# Altium footprint library Components.PcbLib: 86 footprints (part 1 of 6)
Each footprint in its own frame and in the unit in brackets; x right, y up, seen from the top. Pads: shape width x height; smd on the part's side, far side on the other; paste and mask are expansions set on the pad; w line width, h text height; cw(c..) or ccw(c..) is an arc to the next point about the centre after c.
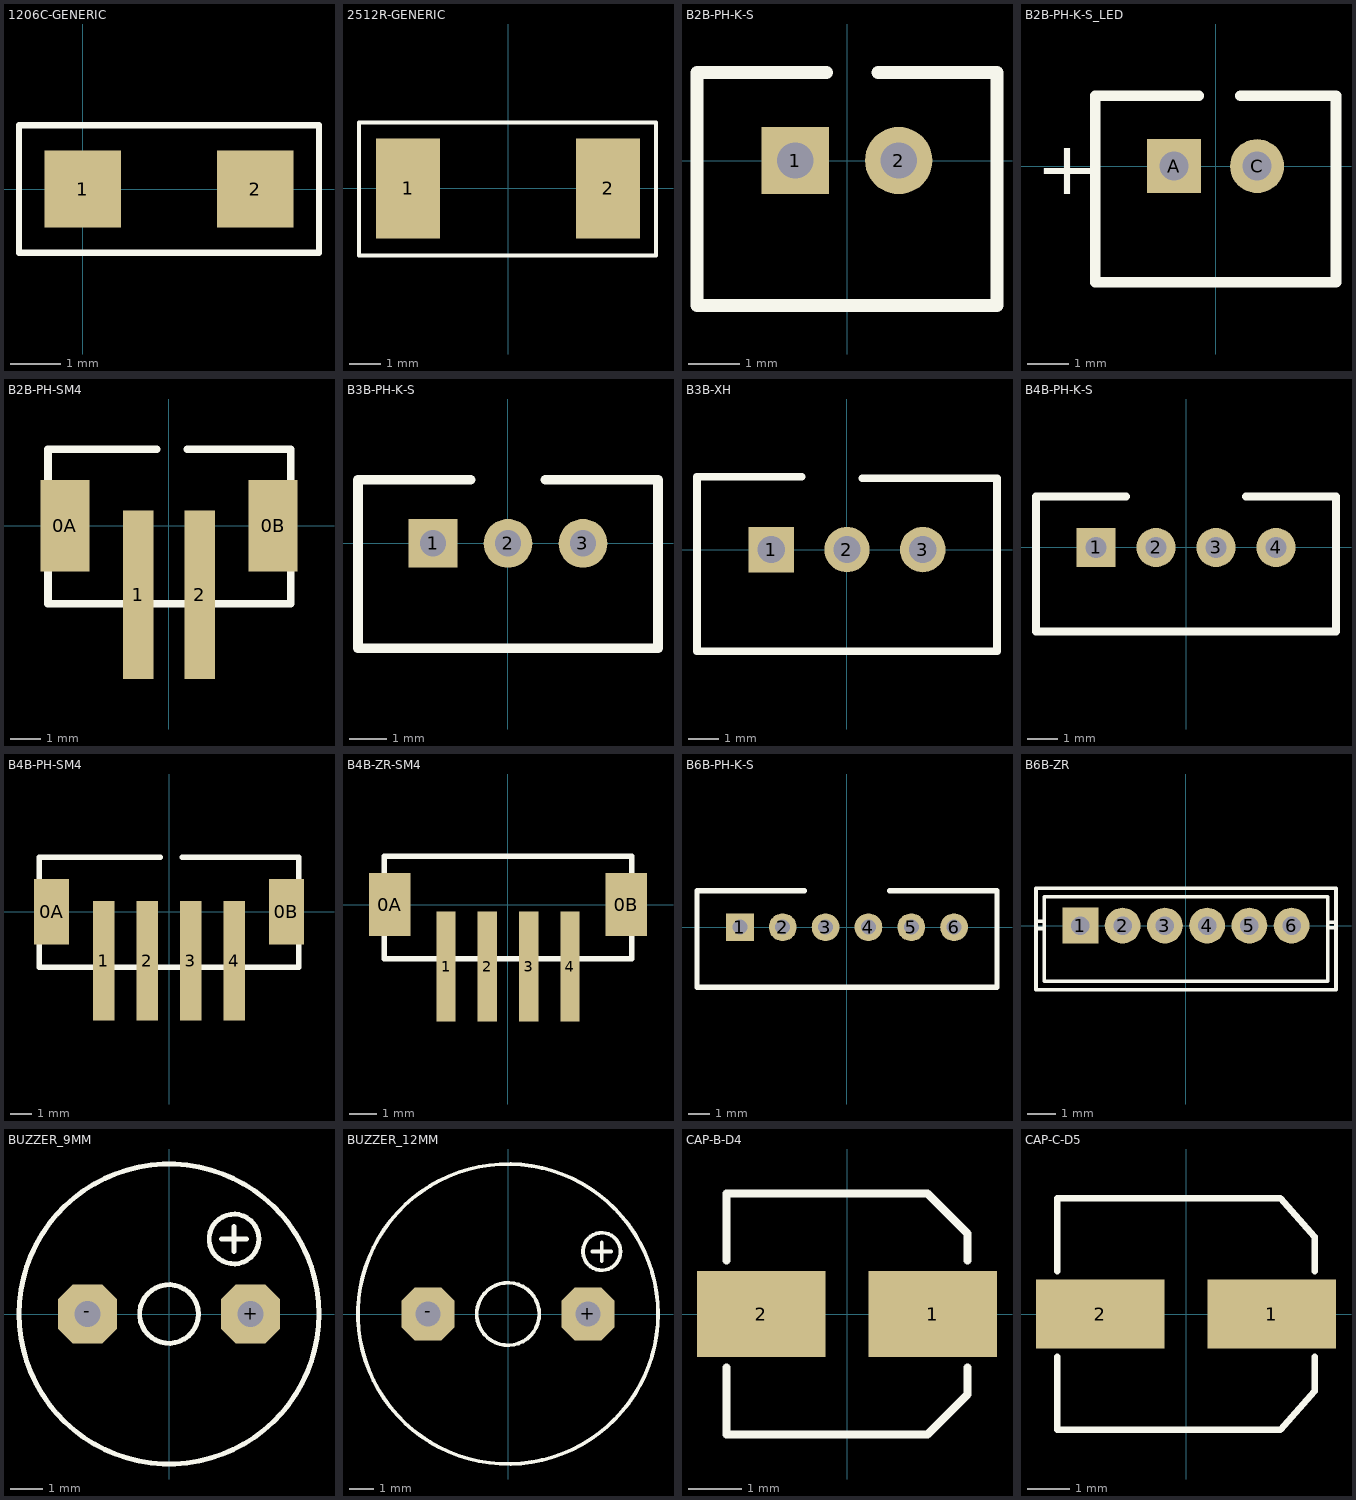
[diagram p0: the footprints below, top view; thin cyan lines are the x and y axes]

## 1206C-GENERIC [mil]
pads (2):
  rect 60x60 smd: 1(0,0) 2(135,0)
Top Overlay:
  lines w5: -50,-50 -50,50 185,50 185,-50 -50,-50
3D body: height 46, standoff 0, extent -8,-29 22,29
3D body: height 45, standoff 0, extent 20,-28 118,28
3D body: height 23, standoff 22, extent 84.5,-16 92,-1
3D body: height 23, standoff 22, extent 74.5,-16 82,-1
3D body: height 23, standoff 22, extent 44.5,-16 52,-1
3D body: height 23, standoff 22, extent 64.5,-16 72,-1
3D body: height 23, standoff 22, extent 69,1.5 76.5,16.5
3D body: height 23, standoff 22, extent 59,1.5 66.5,16.5
3D body: height 23, standoff 22, extent 49,1.5 56.5,16.5
3D body: height 23, standoff 22, extent 39,1.5 46.5,16.5
3D body: height 23, standoff 22, extent 54.5,-16 62,-1
3D body: height 23, standoff 22, extent 79,1.5 86.5,16.5
3D body: height 23, standoff 22, extent 89,1.5 96.5,16.5
3D body: height 46, standoff 0, extent 117,-29 147,29

## 2512R-GENERIC [mil]
pads (2):
  rect 80x125 smd: 1(-125,0) 2(125,0)
Top Overlay:
  lines w5: -186.32,-84 -186.32,0 -186.32,82.68 185.04,82.68 185.04,-84 -186.32,-84
3D body: height 19, standoff 0, extent -139,-60.5 -115,61
3D body: height 19, standoff 0, extent 112.5,-60.5 136,61
3D body: height 19, standoff 18, extent -115,-55.5 112.5,56.5
3D body: height 18, standoff 0, extent -137,-60.5 134.5,61

## B2B-PH-K-S [mm] "JST Header 2 pins Straight, top entry"
pads (2):
  rect 1.3x1.3 hole 0.7: 1(-1,0)
  round 1.3 hole 0.7: 2(1,0)
Top Overlay:
  lines w0.254: -0.4,1.7 -2.9,1.7 -2.9,-2.8 2.9,-2.8 2.9,1.7 0.6,1.7
3D body: height 6, standoff -3.4, extent -2.95,-2.8 2.95,1.7

## B2B-PH-K-S_LED [mm] "JST Header 2 pins Straight, top entry"
pads (2):
  rect 1.3x1.3 hole 0.7: A(-1,0)
  round 1.3 hole 0.7: C(1,0)
Top Overlay:
  lines w0.254: -0.4,1.7 -2.9,1.7 -2.9,-2.8 2.9,-2.8 2.9,1.7 0.6,1.7
  text "+" at -4.325,-0.675 h1.3
3D body: height 6, standoff -3.4, extent -2.95,-2.8 2.95,1.7

## B2B-PH-SM4 [mm] "JST Header 2 pins Straight, top entry"
pads (4):
  rect 1.6x3 smd: 0A(-3.4,0) 0B(3.4,0)
  rect 1x5.5 smd: 1(-1,-2.25) 2(1,-2.25)
Top Overlay:
  lines w0.254: -0.4,2.5 -3.95,2.5 -3.95,-2.55 3.975,-2.55 3.975,2.5 0.6,2.5
3D body: height 6.6, standoff 0, extent -3.975,-4.5 3.975,2.5

## B3B-PH-K-S [mm] "JST Header 3 pins Straight, top entry"
height 6
pads (3):
  rect 1.3x1.3 hole 0.7: 1(-2,0)
  round 1.3 hole 0.7: 2(0,0) 3(2,0)
Top Overlay:
  lines w0.254: -1,1.7 -4,1.7 -4,-2.8 4,-2.8 4,1.7 1,1.7
3D body: height 6, standoff -3.4, extent -3.95,-2.8 3.95,1.7

## B3B-XH [mm] "JST Header 3 pins Straight, top entry"
height 6
pads (3):
  rect 1.5x1.5 hole 0.9: 1(-2.5,0)
  round 1.5 hole 0.9: 2(0,0) 3(2.5,0)
Top Overlay:
  lines w0.254: -1.5,2.4 -4.95,2.4 -4.95,-3.35 4.95,-3.35 4.95,2.35 0.5,2.35
3D body: height 7, standoff -3.4, extent -4.95,-3.4 4.95,2.35

## B4B-PH-K-S [mm] "JST Header 4 pins Straight, top entry"
height 6
pads (4):
  rect 1.3x1.3 hole 0.7: 1(-3,0)
  round 1.3 hole 0.7: 2(-1,0) 3(1,0) 4(3,0)
Top Overlay:
  lines w0.254: -2,1.7 -5,1.7 -5,-2.8 5,-2.8 5,1.7 2,1.7
3D body: height 6, standoff -3.4, extent -4.95,-2.8 4.95,1.7

## B4B-PH-SM4 [mm] "JST Header 4 pins Straight, top entry"
pads (6):
  rect 1.6x3 smd: 0A(-5.4,0) 0B(5.4,0)
  rect 1x5.5 smd: 1(-3,-2.25) 2(-1,-2.25) 3(1,-2.25) 4(3,-2.25)
Top Overlay:
  lines w0.254: -0.4,2.5 -5.975,2.5 -5.975,-2.55 5.975,-2.55 5.975,2.5 0.6,2.5
3D body: height 6.6, standoff 0, extent -5.975,-4.5 5.975,2.5

## B4B-ZR-SM4 [mm] "ZH Connector 1.5mm pitch, top entry"
pads (6):
  rect 1.5x2.3 smd: 0A(-4.3,0) 0B(4.3,0)
  rect 0.7x4 smd: 1(-2.25,-2.25) 2(-0.75,-2.25) 3(0.75,-2.25) 4(2.25,-2.25)
Top Overlay:
  lines w0.2: -4.5,-1.975 4.5,-1.975 4.5,1.75 -4.5,1.75 -4.5,-1.975
3D body: height 5, standoff 0, extent -4.5,-3.45 4.5,1.75

## B6B-PH-K-S [mm] "PH Connector 2mm pitch, top entry"
height 6
pads (6):
  rect 1.3x1.3 hole 0.7: 1(-5,0)
  round 1.3 hole 0.7: 2(-3,0) 3(-1,0) 4(1,0) 5(3,0) 6(5,0)
Top Overlay:
  lines w0.254: -2,1.7 -7,1.7 -7,-2.8 7,-2.8 7,1.7 2,1.7
3D body: height 6, standoff -3.4, extent -6.925,-2.825 6.975,1.675

## B6B-ZR [mm] "ZH Connector 1.5mm pitch, top entry"
height 4.5
pads (6):
  rect 1.27x1.27 hole 0.66: 1(-3.75,0)
  round 1.27 hole 0.66: 2(-2.25,0) 3(-0.75,0) 4(0.75,0) 5(2.25,0) 6(3.75,0)
Top Overlay:
  lines w0.127: -5.325,-0.102 -5.025,-0.102 ; -5.325,0.152 -5.025,0.152 ; -5.025,-1.975 -5.025,1.025 5.025,1.025 5.025,-1.975 -5.008,-1.975 ; 5.025,-0.075 5.325,-0.075 ; 5.025,0.125 5.325,0.125 ; -5.325,-2.275 5.325,-2.275 5.325,1.325 -5.325,1.325 -5.325,-2.275
3D body: height 4.5, standoff -2.7, extent -5.25,-2.225 5.25,1.275

## BUZZER_9MM [mm]
height 9
pads (2):
  oct 1.8x1.8 hole 0.8: +(2.5,0) -(-2.5,0)
Top Overlay:
  circle w0.152: c1.994,2.3 r0.762
  circle w0.152: c0,0 r0.9
  circle w0.152: c0,0 r4.6
  lines w0.152: 1.613,2.3 2.375,2.3 ; 1.994,1.919 1.994,2.681
3D body: height 5.6, standoff -5.4, extent -4.55,-4.55 4.55,4.55

## BUZZER_12MM [mil]
height 354.33
pads (2):
  oct 85x85 hole 40: +(127.95,0) -(-127.95,0)
Top Overlay:
  circle w6: c150,100 r30
  circle w6: c0,0 r50
  circle w6: c0,0 r240
  lines w6: 135,100 165,100 ; 150,85 150,115
3D body: height 374.02, standoff -216.54, extent -235.23,-237.2 237.21,235.24

## CAP-B-D4 [mm]
height 5.8
pads (2):
  rect 2.4x1.6 smd: 1(1.6,0) 2(-1.6,0)
Top Overlay:
  lines w0.15: -2.25,-1 -2.25,-2.25 1.5,-2.25 2.25,-1.5 2.25,-1 ; -2.25,1 -2.25,2.25 1.5,2.25 2.25,1.5 2.25,1

## CAP-C-D5 [mm]
height 5.8
pads (2):
  rect 3x1.6 smd: 1(2,0) 2(-2,0)
Top Overlay:
  lines w0.15: -3,-1 -3,-2.7 2.2,-2.7 3,-1.8 3,-1 ; -3,1 -3,2.7 2.2,2.7 3,1.8 3,1